# EAGLE library part M74HC4075B1R (library ST Microelectronics)
TRIPLE 3-INPUT OR GATE
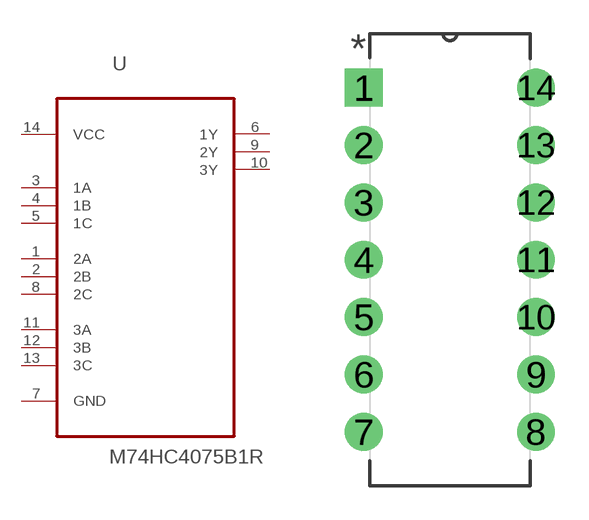
[diagram p239: symbol with the pads of DIP254P762X510-14; footprint DIP254P762X510-14]

Designator prefix U

## M74HC4075B1R (MPN: M74HC4075B1R; OC_FARNELL: 1094305; OC_NEWARK: 89K0914; PACKAGE: 14-DIP; SUPPLIER: STMICROELECTRONICS)  [DIP254P762X510-14]
1  2A  in
2  2B  in
3  1A  in
4  1B  in
5  1C  in
6  1Y  out
7  GND  pas
8  2C  in
9  2Y  out
10  3Y  out
11  3A  in
12  3B  in
13  3C  in
14  VCC  pwr

## Footprint DIP254P762X510-14 (pad centres in mm)
drill 1.118 square: 1 -7.62,15.24
drill 1.118: 2 -7.62,12.7; 3 -7.62,10.16; 4 -7.62,7.62; 5 -7.62,5.08; 6 -7.62,2.54; 7 -7.62,0; 8 0,0; 9 0,2.54; 10 0,5.08; 11 0,7.62; 12 0,10.16; 13 0,12.7; 14 0,15.24